# EAGLE library part INA181 (library Bits_library_eagle 9x)
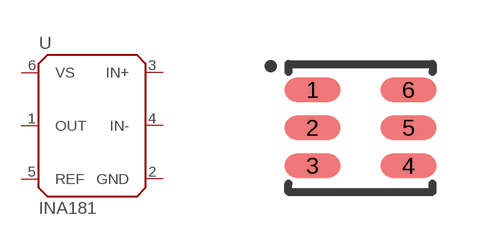
[diagram p8: symbol with the pads of SOT-23-6; footprint SOT-23-6]

Designator prefix -

## INA181  [SOT-23-6]
1  OUT  out
2  GND  pwr
3  IN+  in
4  IN-  pwr
5  REF  in
6  VS  pwr

## Footprint SOT-23-6 (pad centres in mm)
Small Outline Transistor
smd 1.4 x 0.6: 1 -1.2,0.95; 2 -1.2,0; 3 -1.2,-0.95; 4 1.2,-0.95; 5 1.2,0; 6 1.2,0.95